# Altium footprint library SW-TH_4P-L6.0-W6.0-P4.50-LS6.5.PcbLib: 1 footprints
Each footprint in its own frame and in the unit in brackets; x right, y up, seen from the top. Pads: shape width x height; smd on the part's side, far side on the other; paste and mask are expansions set on the pad; w line width, h text height; cw(c..) or ccw(c..) is an arc to the next point about the centre after c.
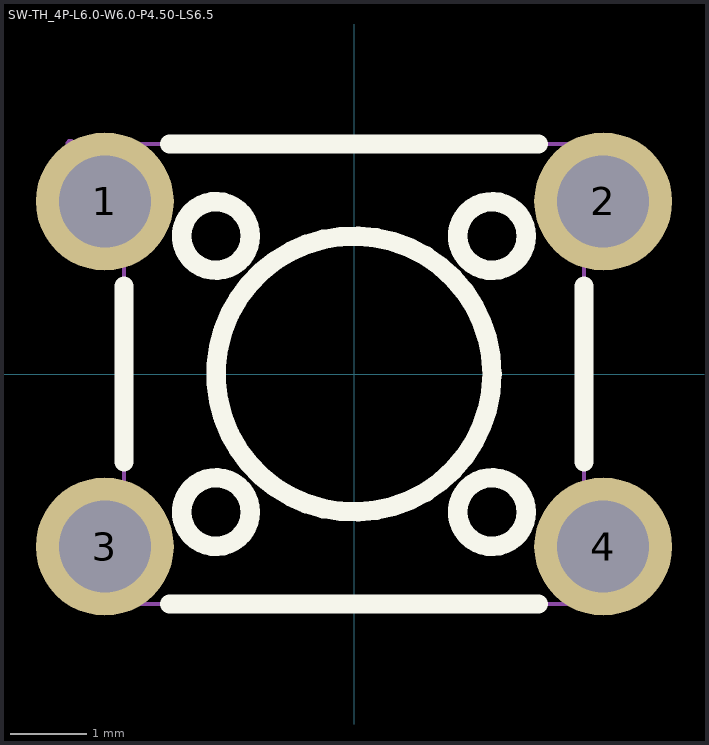
[diagram p0: the footprint, top view; thin cyan lines are the x and y axes]

## SW-TH_4P-L6.0-W6.0-P4.50-LS6.5 [mm]
pads (4):
  round 1.8 hole 1.2: 1(-3.25,2.25) 2(3.25,2.25) 3(-3.25,-2.25) 4(3.25,-2.25)
Top Overlay:
  circle w0.254: c1.8,-1.8 r0.447
  circle w0.254: c-1.8,-1.8 r0.447
  circle w0.254: c-1.8,1.8 r0.447
  circle w0.254: c1.8,1.8 r0.447
  circle w0.254: c0,0 r1.8
  lines w0.254: -3,-1.147 -3,1.147 ; -2.404,-3 2.404,-3 ; -2.404,3 2.404,3 ; 3,-1.147 3,1.147
Mechanical 15:
  region: 3.1,-1.9 3.4,-1.9 3.4,-2.6 3.1,-2.6
  region: 3.1,2.6 3.4,2.6 3.4,1.9 3.1,1.9
  region: -3.4,2.6 -3.1,2.6 -3.1,1.9 -3.4,1.9
  region: -3.4,-1.9 -3.1,-1.9 -3.1,-2.6 -3.4,-2.6
  region: 2.9,-2.6 2.9,-1.9 3.7,-1.9 3.7,-2.6
  region: 2.9,1.9 2.9,2.6 3.7,2.6 3.7,1.9
  region: -2.9,2.6 -2.9,1.9 -3.7,1.9 -3.7,2.6
  region: -2.9,-1.9 -2.9,-2.6 -3.7,-2.6 -3.7,-1.9
  region: -3.64,3 -3.64,2.975 -3.675,2.94 -3.725,2.94 -3.76,2.975 -3.76,3 -3.76,3.025 -3.725,3.06 -3.675,3.06 -3.64,3.025 -3.64,3
  lines w0.051: -3,-3 -3,3 3,3 3,-3 -3,-3